# Altium footprint library circuithub-ccb62a57250ee5863466121cdec4244bd3ef6dc2.PcbLib: 1 footprints
Each footprint in its own frame and in the unit in brackets; x right, y up, seen from the top. Pads: shape width x height; smd on the part's side, far side on the other; paste and mask are expansions set on the pad; w line width, h text height; cw(c..) or ccw(c..) is an arc to the next point about the centre after c.
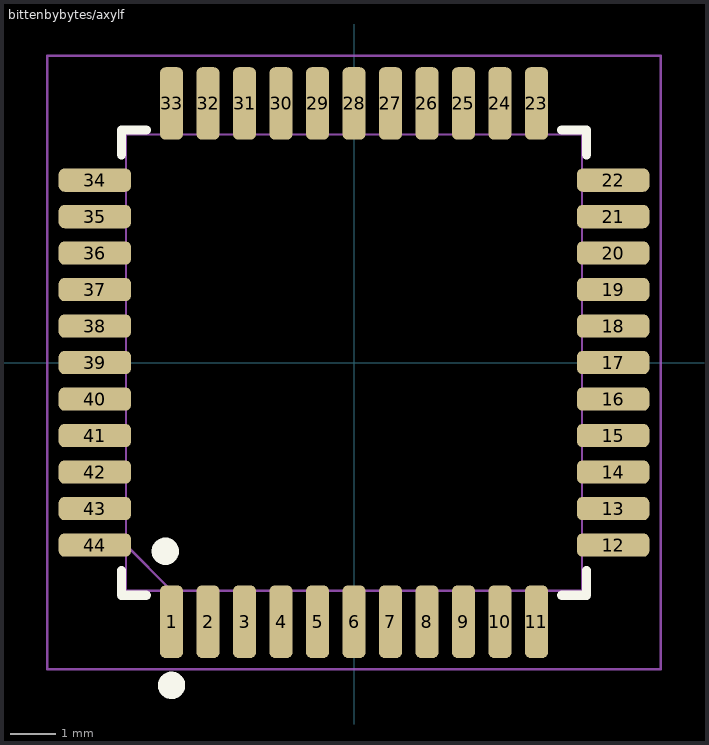
[diagram p0: the footprint, top view; thin cyan lines are the x and y axes]

## bittenbybytes/axylf [mm]
height 1.092
pads (44):
  rrect50% 0.51x1.589 smd: 1(-4,-5.681) 2(-3.2,-5.681) 3(-2.4,-5.681) 4(-1.6,-5.681) 5(-0.8,-5.681) 6(0,-5.681) 7(0.8,-5.681) 8(1.6,-5.681) 9(2.4,-5.681) 10(3.2,-5.681) 11(4,-5.681) 23(4,5.681) 24(3.2,5.681) 25(2.4,5.681) 26(1.6,5.681) 27(0.8,5.681) 28(0,5.681) 29(-0.8,5.681) 30(-1.6,5.681) 31(-2.4,5.681) 32(-3.2,5.681) 33(-4,5.681)
  rrect50% 1.589x0.51 smd: 12(5.681,-4) 13(5.681,-3.2) 14(5.681,-2.4) 15(5.681,-1.6) 16(5.681,-0.8) 17(5.681,0) 18(5.681,0.8) 19(5.681,1.6) 20(5.681,2.4) 21(5.681,3.2) 22(5.681,4) 34(-5.681,4) 35(-5.681,3.2) 36(-5.681,2.4) 37(-5.681,1.6) 38(-5.681,0.8) 39(-5.681,0) 40(-5.681,-0.8) 41(-5.681,-1.6) 42(-5.681,-2.4) 43(-5.681,-3.2) 44(-5.681,-4)
Top Overlay:
  circle w0.3: c-4,-7.075 r0.15
  circle w0.3: c-4.136,-4.136 r0.15
  lines w0.2: -5.1,-4.555 -5.1,-5.1 -4.555,-5.1 ; -5.1,4.555 -5.1,5.1 -4.555,5.1 ; 4.555,-5.1 5.1,-5.1 5.1,-4.555 ; 4.555,5.1 5.1,5.1 5.1,4.555
Mechanical 13:
  lines w0.05: -5,-4 -4,-5 ; -5,-5 5,-5 5,5 -5,5 -5,-5
Mechanical 15:
  lines w0.05: -6.725,-6.725 6.725,-6.725 6.725,6.725 -6.725,6.725 -6.725,-6.725